# Altium footprint library Libaray.PcbLib: 4 footprints
Each footprint in its own frame and in the unit in brackets; x right, y up, seen from the top. Pads: shape width x height; smd on the part's side, far side on the other; paste and mask are expansions set on the pad; w line width, h text height; cw(c..) or ccw(c..) is an arc to the next point about the centre after c.
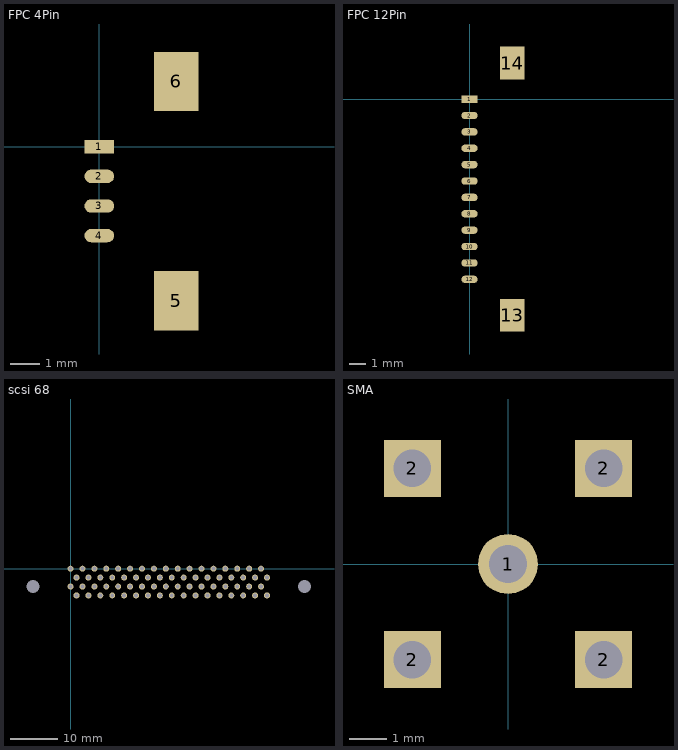
[diagram p0: the footprints below, top view; thin cyan lines are the x and y axes]

## FPC 4Pin [mm]
pads (6):
  rect 1x0.45 smd: 1(0,0)
  oval 1x0.45 smd: 2(0,-1) 3(0,-2) 4(0,-3)
  rect 1.5x2 smd: 5(2.6,-5.2) 6(2.6,2.2)
Drill Drawing:
  lines w0.254: 0,-6.486 4.883,-6.486 5.2,-6.169 5.2,3.402 4.971,3.631 0,3.631

## FPC 12Pin [mm]
pads (14):
  rect 1x0.45 smd: 1(0,0)
  oval 1x0.45 smd: 2(0,-1) 3(0,-2) 4(0,-3) 5(0,-4) 6(0,-5) 7(0,-6) 8(0,-7) 9(0,-8) 10(0,-9) 11(0,-10) 12(0,-11)
  rect 1.5x2 smd: 13(2.6,-13.2) 14(2.6,2.2)
Drill Drawing:
  lines w0.254: 0,-14.643 4.978,-14.643 5.2,-14.421 5.2,3.378 5.18,3.398 4.908,3.67 0.019,3.67

## scsi 68 [mil]
pads (70):
  round 50 hole 33: 1(1650,-225) 2(1600,-150) 3(1550,-225) 4(1500,-150) 5(1450,-225) 6(1400,-150) 7(1350,-225) 8(1300,-150) 9(1250,-225) 10(1200,-150) 11(1150,-225) 12(1100,-150) 13(1050,-225) 14(1000,-150) 15(950,-225) 16(900,-150) 17(850,-225) 18(800,-150) 19(750,-225) 20(700,-150) 21(650,-225) 22(600,-150) 23(550,-225) 24(500,-150) 25(450,-225) 26(400,-150) 27(350,-225) 28(300,-150) 29(250,-225) 30(200,-150) 31(150,-225) 32(100,-150) 33(50,-225) 34(0,-150) 35(1650,-75) 36(1600,0) 37(1550,-75) 38(1500,0) 39(1450,-75) 40(1400,0) 41(1350,-75) 42(1300,0) 43(1250,-75) 44(1200,0) 45(1150,-75) 46(1100,0) 47(1050,-75) 48(1000,0) 49(950,-75) 50(900,0) 51(850,-75) 52(800,0) 53(750,-75) 54(700,0) 55(650,-75) 56(600,0) 57(550,-75) 58(500,0) 59(450,-75) 60(400,0) 61(350,-75) 62(300,0) 63(250,-75) 64(200,0) 65(150,-75) 66(100,0) 67(50,-75) 68(0,0)
  round 60 hole 106.3: 69(1964.96,-150) 70(-314.96,-150)
Drill Drawing:
  lines w10: -393.7,157.48 -393.7,354.33 2047.24,354.33 2047.24,157.48 ; -433.07,-275.59 -433.07,157.48 2086.61,157.48 2086.61,-275.59 -433.07,-275.59

## SMA [mm]
pads (5):
  round 1.6 hole 1: 1(0,0)
  rect 1.524x1.524 hole 1 square: 2(-2.55,-2.55) 2(-2.55,2.55) 2(2.55,-2.55) 2(2.55,2.55)
Drill Drawing:
  lines w0.254: -4,-4 -4,4 4,4 4,-4 -4,-4